# Altium footprint library MOTO.PcbLib: 2 footprints
Each footprint in its own frame and in the unit in brackets; x right, y up, seen from the top. Pads: shape width x height; smd on the part's side, far side on the other; paste and mask are expansions set on the pad; w line width, h text height; cw(c..) or ccw(c..) is an arc to the next point about the centre after c.
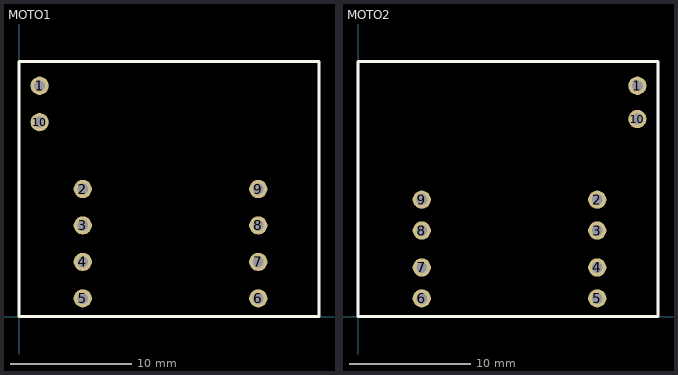
[diagram p0: the footprints below, top view; thin cyan lines are the x and y axes]

## MOTO1 [mm]
pads (10):
  round 1.5 hole 0.9: 1(1.7,19) 2(5.25,10.5) 3(5.25,7.5) 4(5.25,4.5) 5(5.25,1.5) 6(19.7,1.5) 7(19.7,4.5) 8(19.7,7.5) 9(19.7,10.5) 10(1.7,16)
Top Overlay:
  lines w0.254: 0,0 0,21 24.7,21 24.7,0 0,0

## MOTO2 [mm]
pads (10):
  round 1.5 hole 0.9: 1(23,19) 2(19.7,9.62) 3(19.7,7.08) 4(19.7,4.04) 5(19.7,1.5) 6(5.25,1.5) 7(5.25,4.04) 8(5.25,7.08) 9(5.25,9.62) 10(23,16.26)
Top Overlay:
  lines w0.254: 0,0 0,21 24.7,21 24.7,0 0,0